# EAGLE library part TPS6217X (library PP_DigitalIC)
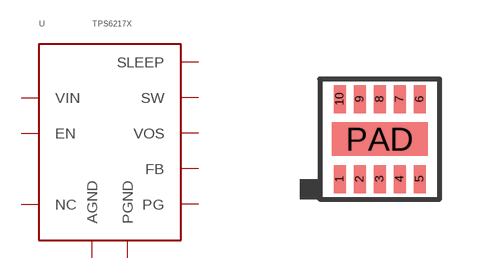
[diagram p5: symbol with the pads of WSON-10; footprint WSON-10]

Designator prefix U

## TPS6217XWSON-10  [WSON-10]
1  PGND
2  VIN
3  EN
4  NC
5  FB
6  AGND
7  PG
8  SLEEP
9  SW
10  VOS
PAD  AGND

## Footprint WSON-10 (pad centres in mm)
smd 0.3 x 0.7: 1 -1,-1; 2 -0.5,-1; 3 0,-1; 4 0.5,-1; 5 1,-1; 6 1,1; 7 0.5,1; 8 0,1; 9 -0.5,1; 10 -1,1
smd 2.4 x 0.84: PAD 0,0